# Altium footprint library pico-clasp-7.PcbLib: 1 footprints
Each footprint in its own frame and in the unit in brackets; x right, y up, seen from the top. Pads: shape width x height; smd on the part's side, far side on the other; paste and mask are expansions set on the pad; w line width, h text height; cw(c..) or ccw(c..) is an arc to the next point about the centre after c.
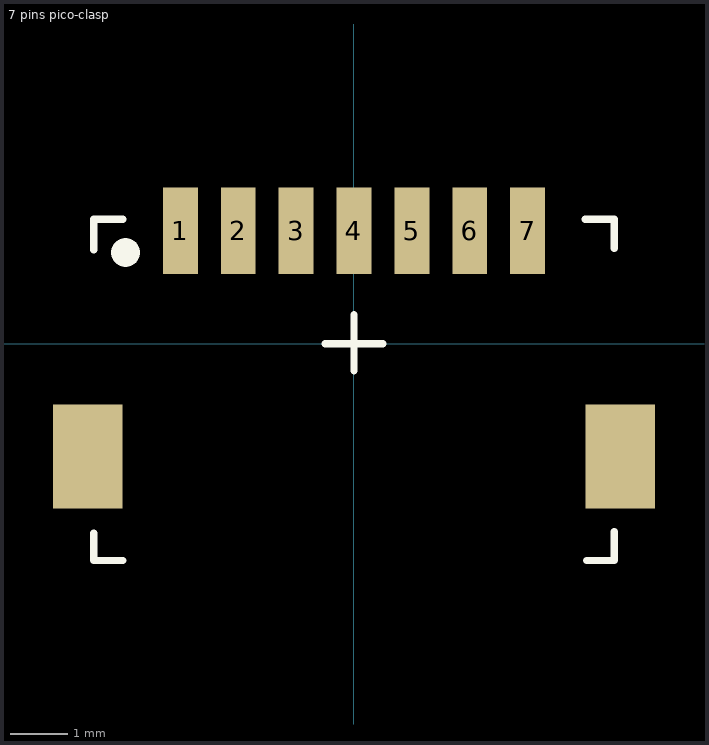
[diagram p0: the footprint, top view; thin cyan lines are the x and y axes]

## 7 pins pico-clasp [mm]
pads (10):
  rect 0.6x1.5 smd: 1(-3.001,1.95) 2(-2.001,1.95) 3(-1.001,1.95) 4(-0.001,1.95) 5(1.002,1.95) 6(2.002,1.95) 7(3.002,1.95)
  rect 1.2x1.8 smd: ""(-4.601,-1.95) ""(4.602,-1.95)
  round 0.5 on Top Overlay: ""(-3.95,1.575)
Top Overlay:
  lines w0.125: -4.5,-3.275 -4.5,-3.75 -4,-3.75 ; -4.5,1.625 -4.5,2.15 -4,2.15 ; -0.5,0 0.5,0 ; 0,-0.475 0,0.5 ; 4,2.15 4.5,2.15 4.5,1.65 ; 4.025,-3.75 4.5,-3.75 4.5,-3.25
3D body "2023960707.stp": height 4.7, standoff 0, extent -4.501,-3.75 4.499,2.15